# Altium footprint library BM06B-GHS-TBT(LF)(SN)(N).PcbLib: 1 footprints
Each footprint in its own frame and in the unit in brackets; x right, y up, seen from the top. Pads: shape width x height; smd on the part's side, far side on the other; paste and mask are expansions set on the pad; w line width, h text height; cw(c..) or ccw(c..) is an arc to the next point about the centre after c.
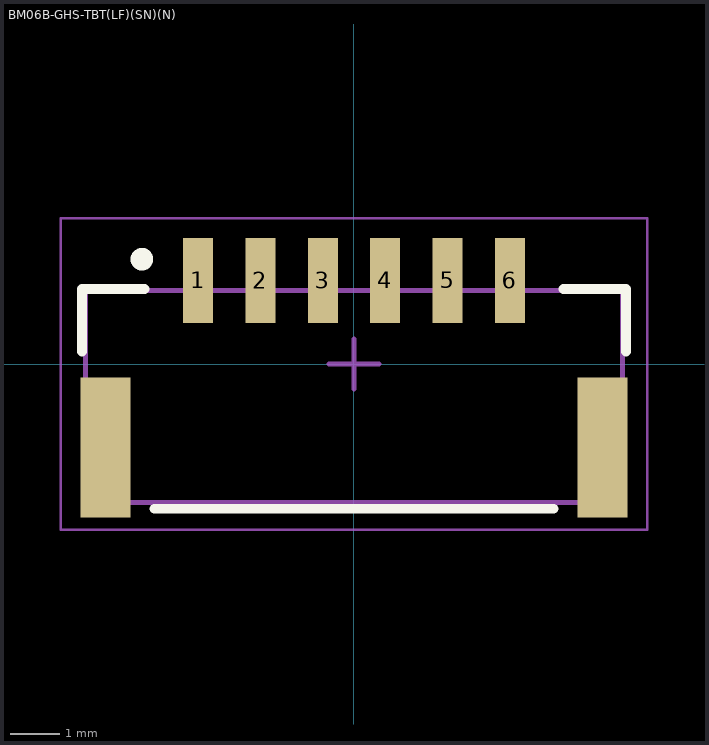
[diagram p0: the footprint, top view; thin cyan lines are the x and y axes]

## BM06B-GHS-TBT(LF)(SN)(N) [mm]
pads (8):
  rect 0.6x1.7 smd: 1(-3.125,1.675) 2(-1.875,1.675) 3(-0.625,1.675) 4(0.625,1.675) 5(1.875,1.675) 6(3.125,1.675)
  rect 1x2.8 smd: ""(-4.975,-1.675) ""(4.975,-1.675)
Top Overlay:
  circle w0.254: c-4.25,2.1 r0.1
  lines w0.2: -5.45,0.25 -5.45,1.5 -4.2,1.5 ; -4,-2.9 4,-2.9 ; 4.2,1.5 5.45,1.5 5.45,0.25
Mechanical 1:
  lines w0.1: -5.375,-2.775 5.375,-2.775 5.375,1.475 -5.375,1.475 -5.375,-2.775
  text ".Designator" at -3.249,-1.308 h0.65
Mechanical 2:
  lines w0.05: -5.875,-3.325 5.875,-3.325 5.875,2.925 -5.875,2.925 -5.875,-3.325
  lines w0.1: -0.5,0 0.5,0 ; 0,-0.5 0,0.5
3D body "BM06B-GHS-TBT.STEP": height 4.18, standoff -0.03, extent -5.4,-2.8 5.35,2.15